# Altium footprint library TEXASINSTRUMENTS_PKG_DSG0008A.PcbLib: 1 footprints
Each footprint in its own frame and in the unit in brackets; x right, y up, seen from the top. Pads: shape width x height; smd on the part's side, far side on the other; paste and mask are expansions set on the pad; w line width, h text height; cw(c..) or ccw(c..) is an arc to the next point about the centre after c.
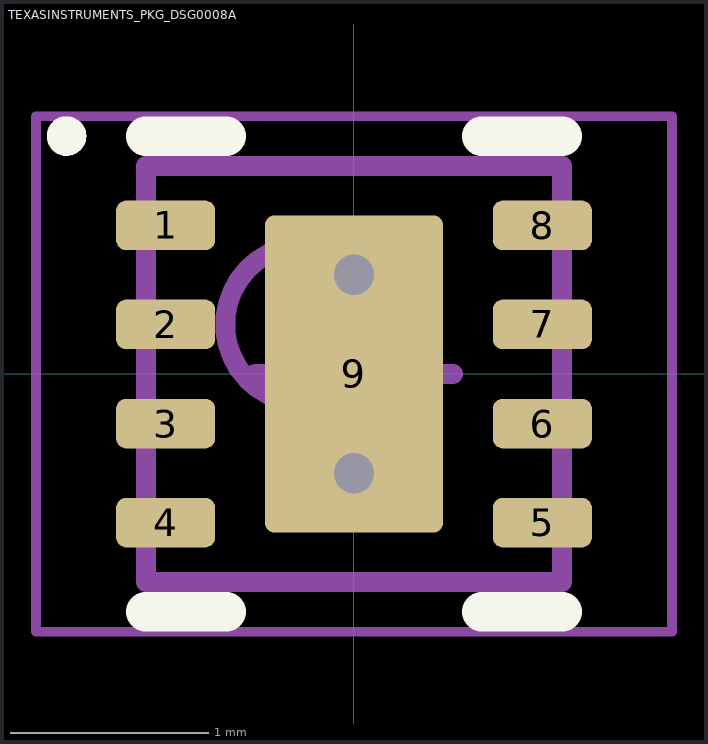
[diagram p0: the footprint, top view; thin cyan lines are the x and y axes]

## TEXASINSTRUMENTS_PKG_DSG0008A [mm]
height 0.8
pads (9):
  rrect40% 0.5x0.25 smd paste+0 mask+0.07: 1(-0.95,0.75) 2(-0.95,0.25) 3(-0.95,-0.25) 4(-0.95,-0.75) 5(0.95,-0.75) 6(0.95,-0.25) 7(0.95,0.25) 8(0.95,0.75)
  rrect11% 0.9x1.6 smd paste-0.9 mask+0.07: 9(0,0)
via 0,-0.5 diameter 0.6 hole 0.203
via 0,0.5 diameter 0.6 hole 0.203
Top Overlay:
  circle w0.1: c-1.45,1.2 r0.05
  lines w0.2: -1.05,-1.2 -0.645,-1.2 ; -1.05,1.2 -0.645,1.2 ; 0.645,-1.2 1.05,-1.2 ; 0.645,1.2 1.05,1.2
Top Paste:
  region: -0.4,0.1 -0.41,0.1 -0.428,0.108 -0.442,0.122 -0.45,0.14 -0.45,0.15 -0.45,0.75 -0.45,0.76 -0.442,0.778 -0.428,0.792 -0.41,0.8 -0.4,0.8 0.4,0.8 0.41,0.8 0.428,0.792 0.442,0.778 0.45,0.76 0.45,0.75 0.45,0.15 0.45,0.14 0.442,0.122 0.428,0.108 0.41,0.1 0.4,0.1
  region: -0.45,-0.75 -0.45,-0.15 -0.45,-0.14 -0.442,-0.122 -0.428,-0.108 -0.41,-0.1 -0.4,-0.1 0.4,-0.1 0.41,-0.1 0.428,-0.108 0.442,-0.122 0.45,-0.14 0.45,-0.15 0.45,-0.75 0.45,-0.76 0.442,-0.778 0.428,-0.792 0.41,-0.8 0.4,-0.8 -0.4,-0.8 -0.41,-0.8 -0.428,-0.792 -0.442,-0.778 -0.45,-0.76
Mechanical 13:
  circle w0.1: c-0.25,0.25 r0.4
  lines w0.1: -1.05,-1.05 1.05,-1.05 1.05,1.05 -1.05,1.05 -1.05,-1.05
Mechanical 15:
  lines w0.05: -1.605,-1.3 1.605,-1.3 1.605,1.3 -1.605,1.3 -1.605,-1.3
  lines w0.1: -0.5,0 0.5,0 ; 0,-0.5 0,0.5
3D body "SON50P200X80_HS-9N.step": height 0.8, standoff 0, extent -1.051,-1.05 1.051,1.05